# Altium schematic symbol library pedals-ota.SCHLIB: 16 symbols
Pins are listed as number, name and electrical type; pins without a type are passive.

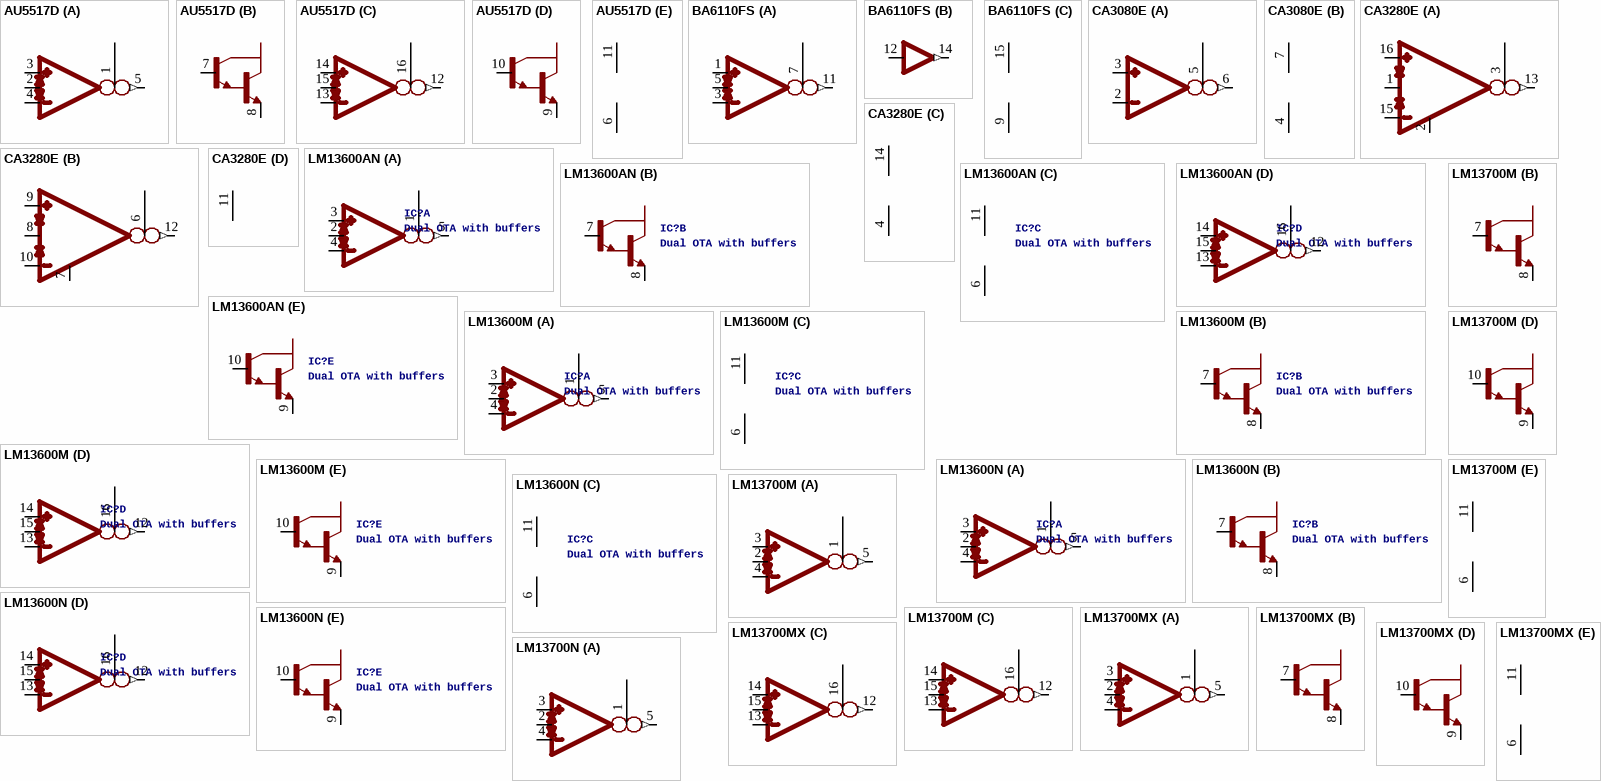
[diagram p0: symbols AU5517D to LM13700N]

## AU5517D
designator IC?, comment Dual OTA with buffers  (value not drawn)
footprint SO16
part A pins: 1 I_BIAS, 2 I_DIODE, 3 IN_P, 4 IN_N, 5 OUT (out)
part B pins: 7 B, 8 E
part C pins: 12 OUT (out), 13 IN_N, 14 IN_P, 15 I_DIODE, 16 I_BIAS
part D pins: 9 E, 10 B
part E pins: 6 V- (oe), 11 V+ (oe)

## BA6110FS
designator IC?, comment OTA with buffer  (value not drawn)
footprint SSOP16
part A pins: 1 IN_P, 3 IN_N, 5 I_DIODE, 7 I_BIAS, 11 OUT (out)
part B pins: 12 IN_N1, 14 OUT (out)
part C pins: 9 V- (oe), 15 V+ (oe)

## CA3080E
designator IC?, comment OTA  (value not drawn)
footprint DIL08
part A pins: 2 IN_N, 3 IN_P, 5 I_BIAS, 6 OUT (out)
part B pins: 4 V- (oe), 7 V+ (oe)

## CA3280E
designator IC?, comment Dual OTA  (value not drawn)
footprint DIL16
part A pins: 1 I_DIODE, 2 NODE_X, 3 I_BIAS, 13 OUT (out), 15 IN_N, 16 IN_P
part B pins: 6 I_BIAS, 7 NODE_X, 8 I_DIODE, 9 IN_P, 10 IN_N, 12 OUT (out)
part C pins: 4 V- (oe), 14 V+ (oe)
part D pins: 11 V+ (oe)

## LM13600AN
designator IC?, comment Dual OTA with buffers
footprint DIL16
part A pins: 1 I_BIAS, 2 I_DIODE, 3 IN_P, 4 IN_N, 5 OUT (out)
part B pins: 7 B, 8 E
part C pins: 6 V- (oe), 11 V+ (oe)
part D pins: 12 OUT (out), 13 IN_N, 14 IN_P, 15 I_DIODE, 16 I_BIAS
part E pins: 9 E, 10 B

## LM13600M
designator IC?, comment Dual OTA with buffers
footprint SO16
part A pins: 1 I_BIAS, 2 I_DIODE, 3 IN_P, 4 IN_N, 5 OUT (out)
part B pins: 7 B, 8 E
part C pins: 6 V- (oe), 11 V+ (oe)
part D pins: 12 OUT (out), 13 IN_N, 14 IN_P, 15 I_DIODE, 16 I_BIAS
part E pins: 9 E, 10 B

## LM13600N
designator IC?, comment Dual OTA with buffers
footprint DIL16
part A pins: 1 I_BIAS, 2 I_DIODE, 3 IN_P, 4 IN_N, 5 OUT (out)
part B pins: 7 B, 8 E
part C pins: 6 V- (oe), 11 V+ (oe)
part D pins: 12 OUT (out), 13 IN_N, 14 IN_P, 15 I_DIODE, 16 I_BIAS
part E pins: 9 E, 10 B

## LM13700M
designator IC?, comment Dual OTA with buffers  (value not drawn)
footprint SO16
part A pins: 1 I_BIAS, 2 I_DIODE, 3 IN_P, 4 IN_N, 5 OUT (out)
part B pins: 7 B, 8 E
part C pins: 12 OUT (out), 13 IN_N, 14 IN_P, 15 I_DIODE, 16 I_BIAS
part D pins: 9 E, 10 B
part E pins: 6 V- (oe), 11 V+ (oe)

## LM13700MX
designator IC?, comment Dual OTA with buffers  (value not drawn)
footprint SO16
part A pins: 1 I_BIAS, 2 I_DIODE, 3 IN_P, 4 IN_N, 5 OUT (out)
part B pins: 7 B, 8 E
part C pins: 12 OUT (out), 13 IN_N, 14 IN_P, 15 I_DIODE, 16 I_BIAS
part D pins: 9 E, 10 B
part E pins: 6 V- (oe), 11 V+ (oe)

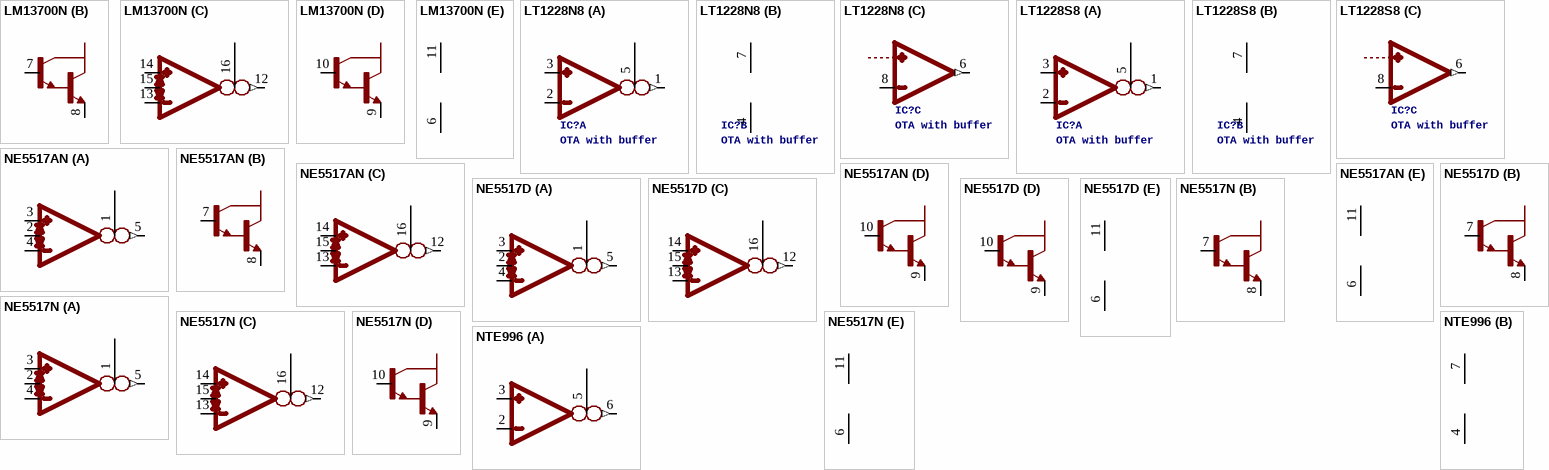
[diagram p1: symbols LM13700N to NTE996]

## LM13700N
designator IC?, comment Dual OTA with buffers  (value not drawn)
footprint DIL16
part A pins: 1 I_BIAS, 2 I_DIODE, 3 IN_P, 4 IN_N, 5 OUT (out)
part B pins: 7 B, 8 E
part C pins: 12 OUT (out), 13 IN_N, 14 IN_P, 15 I_DIODE, 16 I_BIAS
part D pins: 9 E, 10 B
part E pins: 6 V- (oe), 11 V+ (oe)

## LT1228N8
designator IC?, comment OTA with buffer
footprint DIL08
part A pins: 1 OUT (out), 2 IN_N, 3 IN_P, 5 I_BIAS
part B pins: 4 V- (oe), 7 V+ (oe)
part C pins: 6 OUT (out), 8 IN_N

## LT1228S8
designator IC?, comment OTA with buffer
footprint SO08
part A pins: 1 OUT (out), 2 IN_N, 3 IN_P, 5 I_BIAS
part B pins: 4 V- (oe), 7 V+ (oe)
part C pins: 6 OUT (out), 8 IN_N

## NE5517AN
designator IC?, comment Dual OTA with buffers  (value not drawn)
footprint DIL16
part A pins: 1 I_BIAS, 2 I_DIODE, 3 IN_P, 4 IN_N, 5 OUT (out)
part B pins: 7 B, 8 E
part C pins: 12 OUT (out), 13 IN_N, 14 IN_P, 15 I_DIODE, 16 I_BIAS
part D pins: 9 E, 10 B
part E pins: 6 V- (oe), 11 V+ (oe)

## NE5517D
designator IC?, comment Dual OTA with buffers  (value not drawn)
footprint SO16
part A pins: 1 I_BIAS, 2 I_DIODE, 3 IN_P, 4 IN_N, 5 OUT (out)
part B pins: 7 B, 8 E
part C pins: 12 OUT (out), 13 IN_N, 14 IN_P, 15 I_DIODE, 16 I_BIAS
part D pins: 9 E, 10 B
part E pins: 6 V- (oe), 11 V+ (oe)

## NE5517N
designator IC?, comment Dual OTA with buffers  (value not drawn)
footprint DIL16
part A pins: 1 I_BIAS, 2 I_DIODE, 3 IN_P, 4 IN_N, 5 OUT (out)
part B pins: 7 B, 8 E
part C pins: 12 OUT (out), 13 IN_N, 14 IN_P, 15 I_DIODE, 16 I_BIAS
part D pins: 9 E, 10 B
part E pins: 6 V- (oe), 11 V+ (oe)

## NTE996
designator IC?, comment OTA  (value not drawn)
footprint DIL08
part A pins: 2 IN_N, 3 IN_P, 5 I_BIAS, 6 OUT (out)
part B pins: 4 V- (oe), 7 V+ (oe)